# EAGLE library part STF202-22T1G (library STF202-22T1G)
Check prices <https://pricing.snapeda.com/parts/STF202-22T1G/ON%20Semiconductor/view-part?ref=eda>
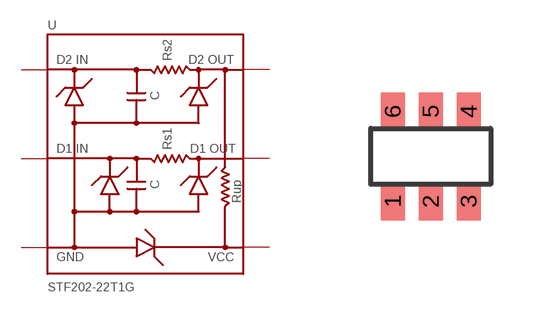
[diagram p0: symbol with the pads of STF202-22T1G; footprint STF202-22T1G]

Designator prefix U

## STF202-22T1G (Availability: In Stock; Description: RC (Pi) EMI Filter 2nd Order Low Pass 2 Channel R = 22Ohms, C = 68pF SC-74, SOT-457; MF: ON Semiconductor; MP: STF202-22T1G; Package: TSOP-6 ON Semiconductor; Price: None; Purchase-URL: https://pricing.snapeda.com/search/part/STF202-22T1G/?ref=eda)  [STF202-22T1G]
1  VCC
2  D1-IN
3  D2-IN
4  D2-OUT
5  D1-OUT
6  GND

## Footprint STF202-22T1G (pad centres in mm)
smd 0.6 x 0.95: 1 -0.95,-1.125; 2 0,-1.125; 3 0.95,-1.125; 4 0.95,1.125; 5 0,1.125; 6 -0.95,1.125